# Altium integrated library Motorola RF Power Amplifier.IntLib: 1 symbol
Pins are listed as number, name and electrical type; pins without a type are passive.

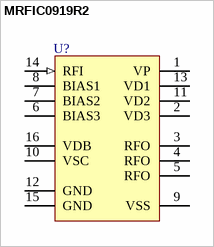
[diagram p0: symbol MRFIC0919R2]

## MRFIC0919R2
designator U?
3.6V GSM GaAs Integrated Power Amplifier; Published: 28-Feb-2003; LatestRevisionDate: 06-Jun-2005; LatestRevisionNote: Stylized 3D Model Added.; DatasheetVersion: 2000, Rev. 3; PackageVersion: May-2002; PackageReference: 948L-01; Publisher: Altium Limited; PackageDescription: Shrink Small Outline; 16 Leads; Body Width 4.4 mm; Pitch 0.65 mm; ComponentLink1Description: Manufacturer Link; ComponentLink1URL: http://www.freescale.com/webapp/sps/site/homepage.jsp?nodeId=014359
footprint 948L-01 (Shrink Small Outline; 16 Leads; Body Width 4.4 mm; Pitch 0.65 mm)
3D model 948L-01 (Shrink Small Outline; 16 Leads; Body Width 4.4 mm; Pitch 0.65 mm)
pins: 1 VP (power), 2 VD3 (power), 3 RFO, 4 RFO, 5 RFO, 6 BIAS3, 7 BIAS2, 8 BIAS1, 9 VSS (power), 10 VSC (oc), 11 VD2 (power), 12 GND (power), 13 VD1 (power), 14 RFI (in), 15 GND (power), 16 VDB